# Altium PCB LPEDT_revA1_bikeit_rev_01.PcbLib
Units mil, origin at the board's own origin, x right, y up, seen from the top; angles counter-clockwise.
Board outline 6000 x 4000 mil, 2 copper layers (Top Layer, Bottom Layer); 67 components, 61 nets, 410 pads, 0 vias.
Unrouted connection lines stored in the file: 173.
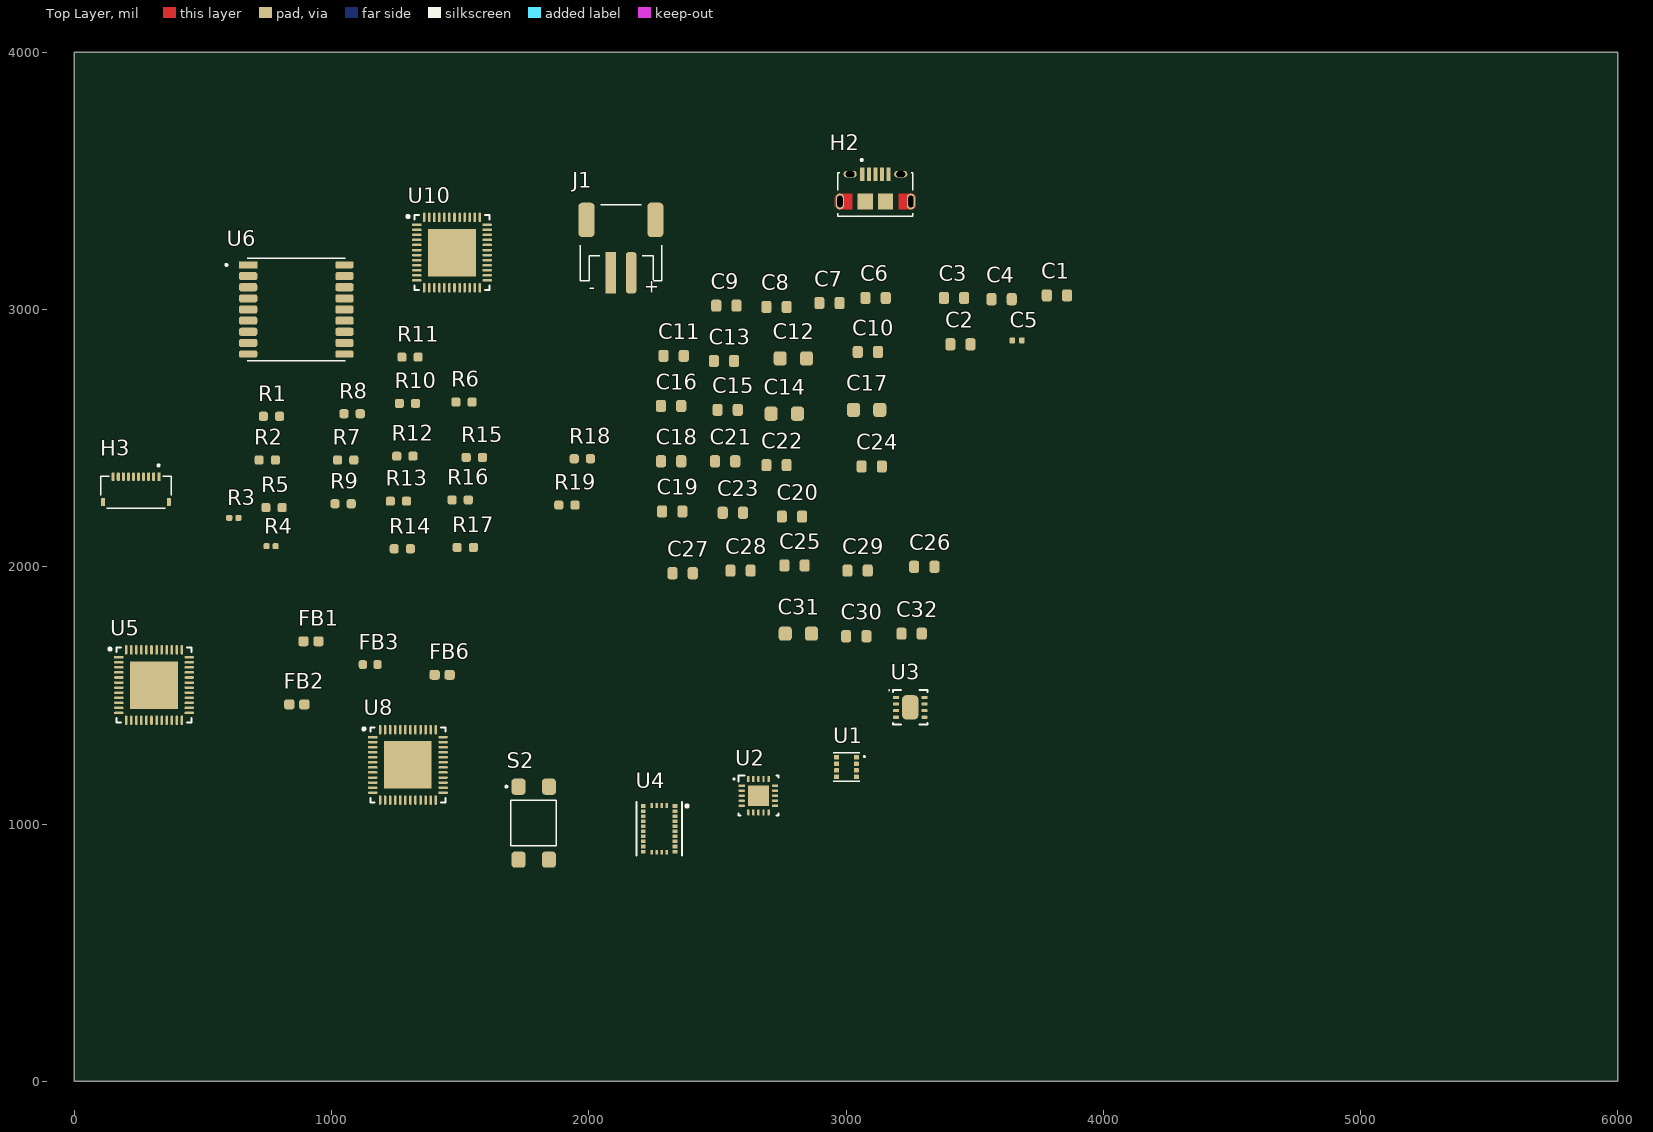
[diagram p0: Top Layer view]
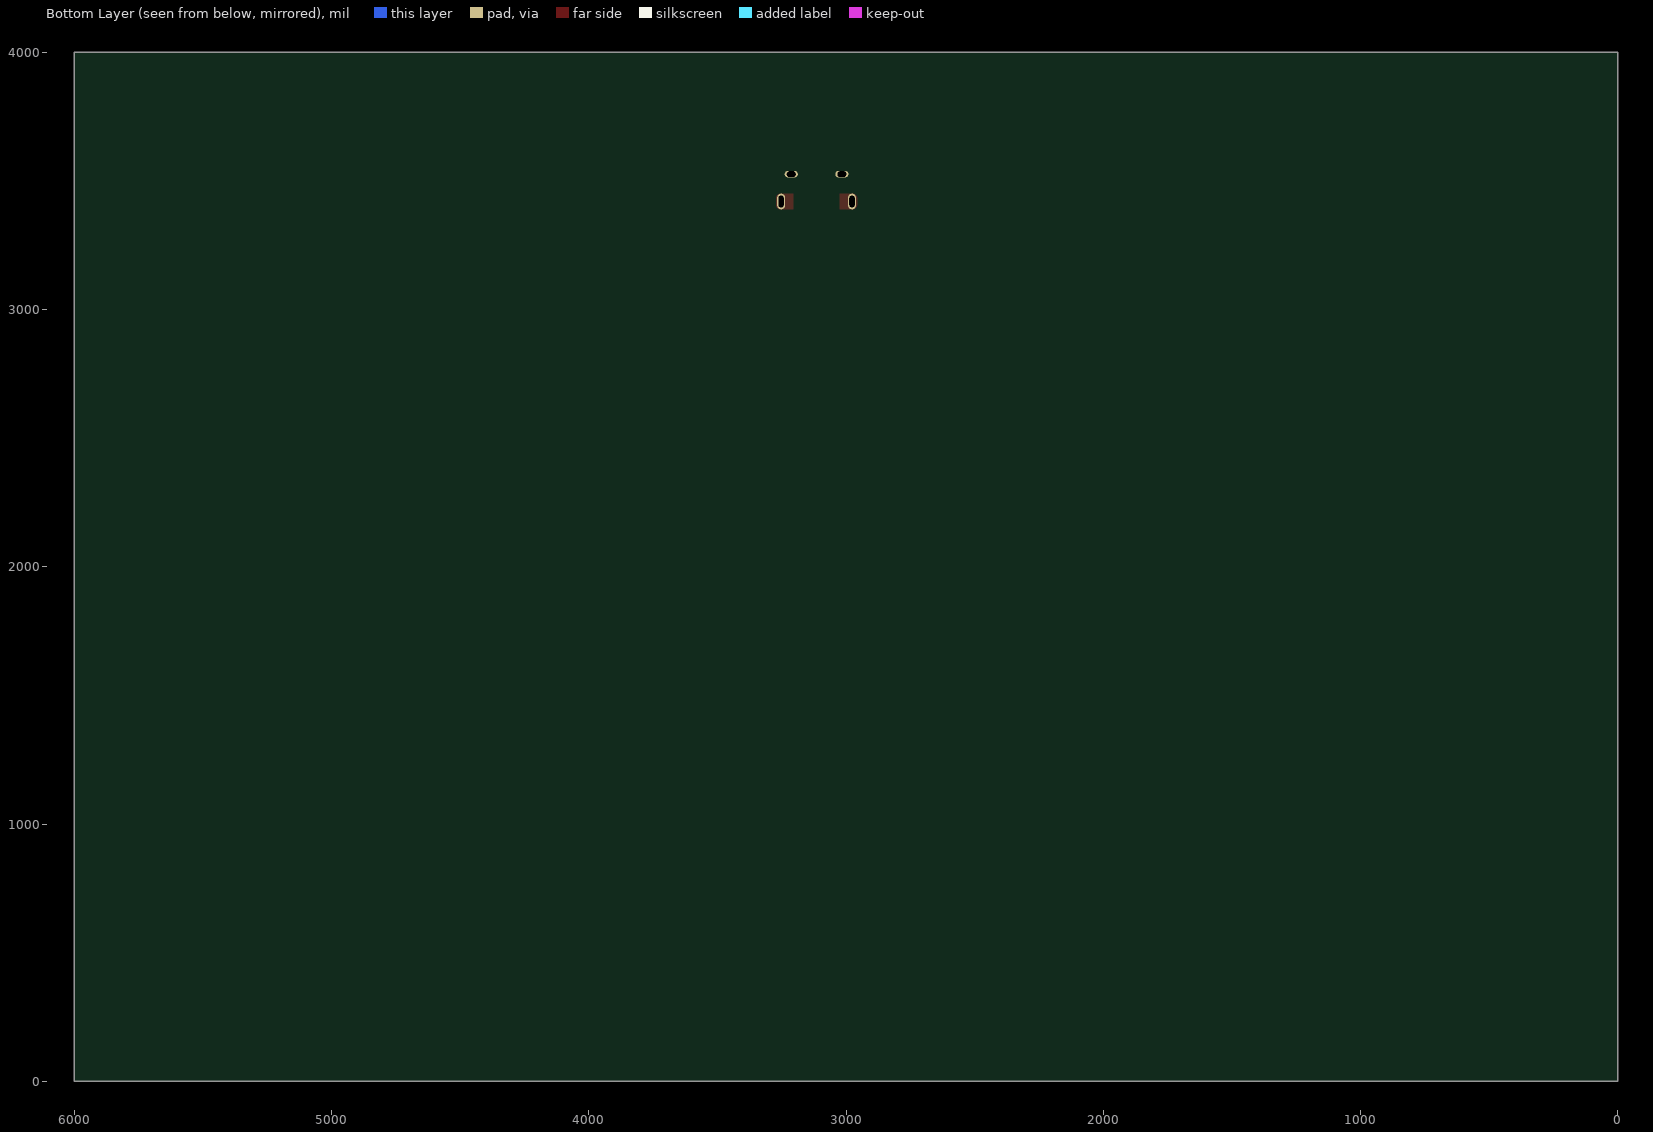
[diagram p1: Bottom Layer view, seen from below]

## Layer stack, top to bottom
Top Solder: solder mask 0.4, Solder Resist, Dk 3.5
Top Layer: signal copper 1.4
Dielectric 1: dielectric 12.6, FR-4, Dk 4.8
Bottom Layer: signal copper 1.4
Bottom Solder: solder mask 0.4, Solder Resist, Dk 3.5

## Board outline
0,0 6000,0 6000,4000 0,4000

## Design rules (kind name [scope] priority, off if disabled: settings)
Clearance [All] p1: gap=10 ignorepadtopadclearanceinfootprint=FALSE except(0: Arc-Hole Track-Hole SMDPad-Hole THPad-Hole Via-Hole Fill-Hole Poly-Hole Region-Hole Text-Hole)
PolygonConnect [All] p1: connectstyle=Relief reliefconductorwidth=10 reliefentries=4 polygonreliefangle="90 Angle" airgapwidth=10
RoutingVias [All] p1: holewidth=28 width=50 viastyle="Through Hole" minholewidth=28 minwidth=50 maxholewidth=28 maxwidth=50
SolderMaskExpansion [All] p1: expansion=4 istentingtop=FALSE
Width [All] p1: maxlimit=10 minlimit=10 preferedwidth=10
30 further rules are at their usual default settings.

## Classes and differential pairs
component class LPEDT_revA1_bikeit_POWER: C2 C3 C4 C27 C28 C29 C30 C31 H1 H2 J1 L4 L5 R8 R9 R10 R11 R12 R13 R14 R15 R16 U2 U3
component class LPEDT_revA1_bikeit_MCU_POWER_RESET: ANT1 C5 C6 C7 C8 C9 C10 C11 C12 C13 C14 C15 C16 C17 C18 C19 C20 FB1 FB2 FB3 L1 L2 L3 R3 R4 R5 R6 S2 U8 U10 X1
component class LPEDT_revA1_bikeit_MCU_IO: ANT2 BATT1 C1 C21 C22 C23 C24 C25 C26 C32 FB6 H3 H4 R1 R2 R7 R17 R18 R19 U1 U4 U5 U6 U9 X2

## Components (designator, comment, footprint, x,y, rotation, side; value= is the part's Value field where it differs from the comment)
C1 "0.1uF 25V" CAP_0603_1.60mm*0.80mm 3820,3055 r0 top
C2 "4.7uF 25V" CAP_0603_1.60mm*0.80mm 3445,2865 r0 top
C3 "0.1uF 25V" CAP_0603_1.60mm*0.80mm 3420,3045 r0 top
C4 "0.1uF 25V" CAP_0603_1.60mm*0.80mm 3605,3040 r0 top
C5 "1.5pF 50V" CAP_0403_1.00mm*0.50mm 3665,2880 r0 top
C6 "100pF 100V" CAP_0603_1.60mm*0.80mm 3115,3045 r0 top
C7 "10pF 50V" CAP_0603_1.60mm*0.80mm 2935.63,3025 r0 top
C8 "0.22uF 25V" CAP_0603_1.60mm*0.80mm 2730,3010 r0 top
C9 "10pF 50V" CAP_0603_1.60mm*0.80mm 2535,3015 r0 top
C10 "0.1UF 25V" CAP_0603_1.60mm*0.80mm 3085,2835 r0 top
C11 "0.1uF 25V" CAP_0603_1.60mm*0.80mm 2330,2820 r0 top
C12 "10uF 25V" CAP_0805_2MM 2795,2810 r0 top
C13 "4.7uF 25V" CAP_0603_1.60mm*0.80mm 2525.63,2800 r0 top
C14 "10uF 25V" CAP_0805_2MM 2760,2595 r0 top
C15 "1uF 50V" CAP_0603_1.60mm*0.80mm 2540,2610 r0 top
C16 "0.1uF 25V" CAP_0603_1.60mm*0.80mm 2320,2625 r0 top
C17 "10uF 25V" CAP_0805_2MM 3080,2610 r0 top
C18 "0.01uF 100V" CAP_0603_1.60mm*0.80mm 2320,2410 r0 top
C19 "1uF 50V" CAP_0603_1.60mm*0.80mm 2324.37,2215 r0 top
C20 "1uF 50V" CAP_0603_1.60mm*0.80mm 2790,2195 r0 top
C21 "1uF 50V" CAP_0603_1.60mm*0.80mm 2530,2410 r0 top
C22 "4.7uF 25V" CAP_0603_1.60mm*0.80mm 2730,2395 r0 top
C23 "0.1uF 25V" CAP_0603_1.60mm*0.80mm 2560,2210 r0 top
C24 "1uF 50V" CAP_0603_1.60mm*0.80mm 3100,2390 r0 top
C25 "1uF 50V" CAP_0603_1.60mm*0.80mm 2800,2005 r0 top
C26 "0.1uF 25V" CAP_0603_1.60mm*0.80mm 3304.37,2000 r0 top
C27 "0.01uF 100V" CAP_0603_1.60mm*0.80mm 2365,1975 r0 top
C28 "4.7uF 25V" CAP_0603_1.60mm*0.80mm 2590,1985 r0 top
C29 "22uF 10V" CAP_0603_1.60mm*0.80mm 3045,1985 r0 top
C30 "0.01uF 100V" CAP_0603_1.60mm*0.80mm 3040,1730 r0 top
C31 "100uF 6.3V" CAP_0805_2MM 2815,1740 r0 top
C32 "1uF 50V" CAP_0603_1.60mm*0.80mm 3255,1740 r0 top
FB1 "BLM18AG601SN1D 100 MHz" Chip2PinSM127P600-8N 920,1710 r0 top
FB2 "BLM18AG601SN1D 100 MHz" Chip2PinSM127P600-8N 865,1465 r0 top
FB3 "74279266 1 KOhm" FB_0603_1.60mm*0.80mm 1150,1620 r0 top
FB6 "BLM18AG601SN1D 100MHz" Chip2PinSM127P600-8N 1430,1580 r0 top
H2 "USB MICRO B RECPT" AMPHENOL_10118194-0001LF 3114.37,3420 r0 top
H3 "CONN FFC FPC 10POS 0.50MM" AYF531035A 328.43,2350 r0 top
J1 "S2B-PH-SM4-TB" S2B-PH-SM4-TB 2125,3290 r0 top
R1 "4.7k 1%" RES_0603_1608X06 766.5,2585 r0 top
R2 "4.7k 1%" RES_0603_1608X06 750,2415 r0 top
R3 "0 Ohm 1/16W" RESC1005X04N 620,2190 r0 top
R4 "0 Ohm 1/16W" RESC1005X04N 765,2080 r0 top
R5 "100 1%" RES_0603_1608X06 776.5,2230 r0 top
R6 "1 Ohm 1% 0.1W" RES_0603_1608X06 1515,2640 r0 top
R7 "100k 1%" RES_0603_1608X06 1055,2415 r0 top
R8 "10k 1%" RES_0603_1608X06 1080,2595 r0 top
R9 "698 0.1W 1%" RES_0603_1608X06 1045,2245 r0 top
R10 "4.75M 1%" RES_0603_1608X06 1295,2635 r0 top
R11 "8.25M 0.1W 1%" RES_0603_1608X06 1305,2815 r0 top
R12 "4.22M 0.1W 1%" RES_0603_1608X06 1285,2430 r0 top
R13 "8.06M 1%" RES_0603_1608X06 1260,2255 r0 top
R14 "715k 1%" RES_0603_1608X06 1275,2070 r0 top
R15 "7.5M 0.1W 1%" RES_0603_1608X06 1555,2425 r0 top
R16 "5.62M 0.1W 1%" RES_0603_1608X06 1500,2260 r0 top
R17 "10k 1%" RES_0603_1608X06 1520,2075 r0 top
R18 "10k 1%" RES_0603_1608X06 1975,2420 r0 top
R19 "10k 1%" RES_0603_1608X06 1915,2240 r0 top
S2 "SWITCH SPST-NO 50MA 12V" SW_TL3305AF260QG 1785.94,1003.27 r0 top
U1 "BME280" PSON65P250X250X100-8N 3001.81,1221.61 r0 top
U2 "BQ25570RGRR PMIC" RGR0020A_NV 2659.67,1110.07 r0 top value=Value
U3 "TPS2115ADRBT Power Mux" SON127P600-8N 3249.88,1453.39 r0 top
U4 "BNO055" FP-BNO055-MFG 2273.48,981.42 r0 top
U5 "EFR32BG13P732F512GM48-C" QFN50P700X700X90_HS-49N 310,1540 r0 top
U6 "MAX-M8Q-0" XCVR_MAX-M8C-0-10 862.99,3000.08 r0 top
U8 "EFR32BG13P732F512GM48-C" QFN50P700X700X90_HS-49N 1296.81,1229.84 r0 top
U10 "EFR32BG13P732F512GM48-C" QFN50P700X700X90_HS-49N 1468.19,3221.42 r0 top

## Footprints (in the part's own frame and the unit in brackets; to place one, negate y for a bottom-side part, rotate by r counter-clockwise, add the part's x,y. Pads: shape width x height; smd on the part's side, far side on the other; paste and mask are expansions set on the pad)
AMPHENOL_10118194-0001LF [mm]
  rect 0.4x1.35 smd: 1(-1.3,2.7) 2(-0.65,2.7) 3(0,2.7) 4(0.65,2.7) 5(1.3,2.7)
  oval 1.3x0.65 hole 0.55 slot 0.85 at 0 deg: S1(-2.5,2.7) S2(2.5,2.7)
  oval 0.775x1.55 hole 0.5 slot 1.15 at 90 deg: S3(-3.5,0) S6(3.5,0)
  rect 1.5x1.55 smd: S4(-1,0) S5(1,0)
  Top Layer region: 193 vertices and 0 holes, not listed, extent 2.3,-0.78 4,0.775
  Top Layer region: 193 vertices and 0 holes, not listed, extent -4,-0.775 -2.3,0.78
  silkscreen extent -3.7,-1.45 3.7,4.2, body extent -4.05,-2.69 4,2.89, height 2.75
AYF531035A [mm]
  rect 0.3x0.8 smd mask+0.082: 1(0,0)
  rrect50% 0.3x0.8 smd mask+0.082: 2(-0.5,0) 3(-1,0) 4(-1.5,0) 5(-2,0) 6(-2.5,0) 7(-3,0) 8(-3.5,0) 9(-4,0) 10(-4.5,0)
  rrect50% 0.4x0.8 smd mask+0.082: S1(1,-2.5) S2(-5.5,-2.5)
  silkscreen extent -5.75,-3.1 1.25,1.22, body extent -5.75,-2.97 1.25,0.73, height 1
CAP_0403_1.00mm*0.50mm [mm] "Chip Capacitor, 2-Leads, Body 1.00x0.50mm, IPC Medium Density"
  rrect50% 0.55x0.6 smd: 1(-0.475,0) 2(0.475,0)
  body extent -0.53,-0.28 0.53,0.28, height 0.55
CAP_0603_1.60mm*0.80mm [mm] "Chip Capacitor, 2-Leads, Body 1.60x0.80mm, IPC Medium Density"
  rrect50% 1x1.2 smd: 1(-1,0) 2(1,0)
  body extent -0.87,-0.48 0.88,0.47, height 0.95
CAP_0805_2MM [mm] "Chip Capacitor, 2-Leads, Body 2.00x1.25mm, IPC Medium Density"
  rrect50% 1.3x1.4 smd: 1(-1.3,0) 2(1.3,0)
  body extent -1.07,-0.7 1.08,0.7, height 1.4
Chip2PinSM127P600-8N [mm]
  rrect50% 1.02x0.98 smd: 1(-0.74,0) 2(0.74,0)
  body extent -0.87,-0.48 0.88,0.47, height 0.95
FB_0603_1.60mm*0.80mm [mm] "Ferrite Bead, 2-Leads, Body 1.60x0.80mm, IPC Medium Density"
  rrect50% 0.8x0.85 smd: 1(-0.725,0) 2(0.725,0)
  body extent -0.8,-0.4 0.8,0.4, height 0.8
FP-BNO055-MFG [mm]
  rect 0.475x0.35 smd paste+0 mask-1000: 1(1.562,2.25) 6(-1.562,2.25) 7(-1.562,1.75) 8(-1.562,1.25) 9(-1.562,0.75) 10(-1.562,0.25) 11(-1.562,-0.25) 12(-1.562,-0.75) 13(-1.562,-1.25) 14(-1.562,-1.75) 15(-1.562,-2.25) 20(1.562,-2.25) 21(1.562,-1.75) 22(1.562,-1.25) 23(1.562,-0.75) 24(1.562,-0.25) 25(1.562,0.25) 26(1.562,0.75) 27(1.562,1.25) 28(1.562,1.75)
  rect 0.25x0.475 smd paste+0 mask-1000: 2(0.75,2.312) 3(0.25,2.312) 4(-0.25,2.312) 5(-0.75,2.312) 16(-0.75,-2.312) 17(-0.25,-2.312) 18(0.25,-2.312) 19(0.75,-2.312)
  silkscreen extent -2.25,-2.65 2.88,2.65, body extent -2.45,-3.15 2.45,3.15, height 0.25
PSON65P250X250X100-8N [mm]
  rect 0.49x0.45 smd paste+0 mask+0.085: 1(0.97,0.975)
  rrect25% 0.49x0.45 smd paste+0 mask+0.085: 2(0.97,0.325) 3(0.97,-0.325) 4(0.97,-0.975) 5(-0.97,-0.975) 6(-0.97,-0.325) 7(-0.97,0.325) 8(-0.97,0.975)
  silkscreen extent -1.3,-1.39 1.83,1.39, body extent -1.25,-1.25 1.25,1.25, height 1
QFN50P700X700X90_HS-49N [mm] "QFN, 48-Leads, Body 7.00x7.00mm, Pitch 0.50mm, Thermal Pad 4.70x4.70mm, IPC Medium Density"
  rect 4.7x4.7 smd: 0(0,0)
  rect 0.95x0.25 smd: 1(-3.475,2.75)
  oval 0.95x0.25 smd: 2(-3.475,2.25) 3(-3.475,1.75) 4(-3.475,1.25) 5(-3.475,0.75) 6(-3.475,0.25) 7(-3.475,-0.25) 8(-3.475,-0.75) 9(-3.475,-1.25) 10(-3.475,-1.75) 11(-3.475,-2.25) 12(-3.475,-2.75) 25(3.475,-2.75) 26(3.475,-2.25) 27(3.475,-1.75) 28(3.475,-1.25) 29(3.475,-0.75) 30(3.475,-0.25) 31(3.475,0.25) 32(3.475,0.75) 33(3.475,1.25) 34(3.475,1.75) 35(3.475,2.25) 36(3.475,2.75)
  oval 0.25x0.95 smd: 13(-2.75,-3.475) 14(-2.25,-3.475) 15(-1.75,-3.475) 16(-1.25,-3.475) 17(-0.75,-3.475) 18(-0.25,-3.475) 19(0.25,-3.475) 20(0.75,-3.475) 21(1.25,-3.475) 22(1.75,-3.475) 23(2.25,-3.475) 24(2.75,-3.475) 37(2.75,3.475) 38(2.25,3.475) 39(1.75,3.475) 40(1.25,3.475) 41(0.75,3.475) 42(0.25,3.475) 43(-0.25,3.475) 44(-0.75,3.475) 45(-1.25,3.475) 46(-1.75,3.475) 47(-2.25,3.475) 48(-2.75,3.475)
  silkscreen extent -4.47,-3.7 3.7,3.7, body extent -3.6,-3.6 3.6,3.6, height 0.9
RES_0603_1608X06 [mm] "Chip Resistor, 2-Leads, Body 1.60x0.80mm, IPC Medium Density"
  rrect50% 0.9x0.9 smd: 1(-0.8,0) 2(0.8,0)
  body extent -0.78,-0.43 0.77,0.42, height 0.45
RESC1005X04N [mm] "Chip Resistor, 2-Leads, Body 1.00x0.50mm, IPC Medium Density"
  rrect50% 0.6x0.6 smd: 1(-0.45,0) 2(0.45,0)
  body extent -0.55,-0.3 0.55,0.3, height 0.4
RGR0020A_NV [mm]
  rect 0.6x0.24 smd paste-0.102 mask+0.051: 1(-1.65,1)
  rrect50% 0.6x0.24 smd paste-0.102 mask+0.051: 2(-1.65,0.5) 3(-1.65,0) 4(-1.65,-0.5) 5(-1.65,-1) 11(1.65,-1) 12(1.65,-0.5) 13(1.65,0) 14(1.65,0.5) 15(1.65,1)
  rrect50% 0.24x0.6 smd paste-0.102 mask+0.051: 6(-1,-1.65) 7(-0.5,-1.65) 8(0,-1.65) 9(0.5,-1.65) 10(1,-1.65) 16(1,1.65) 17(0.5,1.65) 18(0,1.65) 19(-0.5,1.65) 20(-1,1.65)
  rect 2.05x2.05 smd paste-1.025 mask+0.051: 21(0,0)
  rrect50% 0.6x0.24 on Top Paste paste-0.102 mask+0.051: ""(-1.65,-1.001) ""(-1.65,-0.501) ""(-1.65,-0.001) ""(-1.65,0.499) ""(1.65,-1.001) ""(1.65,-0.501) ""(1.65,-0.001) ""(1.65,0.499) ""(1.65,0.999)
  rect 0.6x0.24 on Top Paste paste-0.102 mask+0.051: ""(-1.65,0.999)
  rrect50% 0.24x0.6 on Top Paste paste-0.102 mask+0.051: ""(-1,-1.651) ""(-1,1.649) ""(-0.5,-1.651) ""(-0.5,1.649) ""(0,-1.651) ""(0,1.649) ""(0.5,-1.651) ""(0.5,1.649) ""(1,-1.651) ""(1,1.649)
  silkscreen extent -2.46,-1.97 1.97,1.97, body extent -1.75,-1.75 1.75,1.75, height 1
S2B-PH-SM4-TB [mil]
  rect 40x160 smd: 1(-39.44,-147.2)
  rrect50% 40x160 smd: 2(39.93,-147.2)
  rrect50% 63x134 smd: NC1(-133.93,58.46) NC2(133.93,58.46)
  silkscreen extent -158,-179 158,117, body extent -156,-216 155,123, height 220
SON127P600-8N [mm]
  rect 0.6x0.3 smd: 1(-1.4,0.975)
  rrect50% 0.6x0.3 smd: 2(-1.4,0.325) 3(-1.4,-0.325) 4(-1.4,-0.975) 5(1.4,-0.975) 6(1.4,-0.325) 7(1.4,0.325) 8(1.4,0.975)
  rrect50% 1.6x2.4 smd: 9(0,0)
  silkscreen extent -2.15,-1.7 1.7,1.75, body extent -1.6,-1.55 1.6,1.55, height 1
SW_TL3305AF260QG [mm]
  rrect50% 1.4x1.6 smd: 1(-1.5,3.6) 2(-1.5,-3.6) 3(1.5,3.6) 4(1.5,-3.6)
  silkscreen extent -2.8,-2.25 2.25,3.7, body extent -2.25,-3.75 2.25,3.75, height 3.7
XCVR_MAX-M8C-0-10 [mm]
  rect 1.8x0.7 smd paste-2 mask+0: 1(-4.75,4.4)
  rrect50% 1.8x0.8 smd paste-2 mask+0: 2(-4.75,3.3) 3(-4.75,2.2) 4(-4.75,1.1) 5(-4.75,0) 6(-4.75,-1.1) 7(-4.75,-2.2) 8(-4.75,-3.3) 11(4.75,-3.3) 12(4.75,-2.2) 13(4.75,-1.1) 14(4.75,0) 15(4.75,1.1) 16(4.75,2.2) 17(4.75,3.3)
  rrect50% 1.8x0.7 smd paste-2 mask+0: 9(-4.75,-4.4) 10(4.75,-4.4) 18(4.75,4.4)
  rrect50% 1.8x0.7 on Top Paste paste-2 mask+0: ""(-4.749,-4.399) ""(4.751,-4.399) ""(4.751,4.401)
  rrect50% 1.8x0.8 on Top Paste paste-2 mask+0: ""(-4.749,-3.299) ""(-4.749,-2.199) ""(-4.749,-1.099) ""(-4.749,0.001) ""(-4.749,1.101) ""(-4.749,2.201) ""(-4.749,3.301) ""(4.751,-3.299) ""(4.751,-2.199) ""(4.751,-1.099) ""(4.751,0.001) ""(4.751,1.101) ""(4.751,2.201) ""(4.751,3.301)
  rect 1.8x0.7 on Top Paste paste-2 mask+0: ""(-4.749,4.401)
  silkscreen extent -7,-5.06 4.85,5.06, body extent -4.85,-5.05 4.85,5.05, height 2.7

## Part data
C1 C3 C4 C10 C11 C16 C23 C26: library part GCJ188R71E104KA12D, "CAP CER 0.1UF 25V X7R 0603", Capacitance=100nF, Case Code (Imperial)=0603, Case Code (Metric)=1608, Manufacturer=Murata, Max Operating Temperature=125°C, Min Operating Temperature=-55°C, Ratings=AEC-Q200, Supplier Part Number 1=490-16477-1-ND, Tolerance=10%, Voltage Rating=25V
C2 C13 C22 C28: library part GRM188R61E475KE11D, "Cap Ceramic 0603 4.7 uF 25 V ±10 % Tolerance X5R SMT Multilayer Ceramic Capacitor", Capacitance=4.7uF, Case Code (Imperial)=0603, Case Code (Metric)=1608, Dielectric=X5R, Manufacturer=Murata, Max Operating Temperature=85°C, Min Operating Temperature=-55°C, Package Quantity=4000, Supplier Part Number 1=490-7203-1-ND, Tolerance=10%, Voltage=25V
C5: library part 500R07S1R5BV4T, "1.5pF ±0.1pF 50V Ceramic Capacitor C0G, NP0 0402 (1005 Metric)", Manufacturer="Johanson Technology Inc.", Supplier Part Number 1=712-1270-1-ND
C6: library part GRM1885C2A101FA01D, "Multilayer Ceramic Capacitors MLCC - SMD/SMT 100pF 100Volts C0G 0.01", Capacitance=100pF, Case Code (Imperial)=0603, Case Code (Metric)=1608, Dielectric=C0G, Manufacturer=Murata, Max Operating Temperature=125°C, Min Operating Temperature=-55°C, Package Quantity=4000, Supplier Part Number 1=490-14623-1-ND, Tolerance=1%, Voltage Rating=100V
C7 C9: library part GRM1885C1H100FA01D, "Cap Ceramic 10pF 50V C0G 1% SMD 0603 125C T/R", Capacitance=10pF, Case Code (Imperial)=0603, Case Code (Metric)=1608, Dielectric=C0G, Manufacturer=Murata, Max Operating Temperature=125°C, Min Operating Temperature=-55°C, Package Quantity=4000, Supplier Part Number 1=490-9713-1-ND, Temperature Coefficient=30ppm/°C, Tolerance=1%, Voltage=50V
C8: library part GRM188R71E224KA88D, "Capacitor 220 nF 25 VDC PU=4000 ST, GRM188R71E224KA88D, Murata", Capacitance=220nF, Case Code (Imperial)=0603, Case Code (Metric)=1608, Dielectric=X7R, Manufacturer=Murata, Max Operating Temperature=125°C, Min Operating Temperature=-55°C, Package Quantity=1, Supplier Part Number 1=490-3290-1-ND, Tolerance=10%, Voltage=50V, Voltage Rating=25V
C12 C14 C17: library part GRM21BR61E106KA73K, "CAP CER 10UF 25V X5R 0805", Capacitance=10uF, Case/Package=0805, Dielectric=X5R, Manufacturer=Murata, Max Operating Temperature=85°C, Min Operating Temperature=-55°C, Package Quantity=10000, Supplier Part Number 1=490-16824-1-ND, Tolerance=10%, Voltage Rating=25V
C15 C19 C20 C21 C24 C25 C32: library part GRT188R61H105KE13D, "CAP, MLCC, AEC-Q200, X5R, 1uF, 50V, 0603", Capacitance=1uF, Case Code (Imperial)=0603, Case Code (Metric)=1608, Dielectric=X5R, Manufacturer=Murata, Max Operating Temperature=85°C, Min Operating Temperature=-55°C, Ratings=AEC-Q200, Supplier Part Number 1=490-12330-1-ND, Tolerance=10%, Voltage Rating=50V
C18 C27 C30: library part GCM188R72A103KA37D, "Multilayer Ceramic Capacitor, AEC-Q200 GCM Series, 0.01 F, 10%, X7R, 100 V RoHS Compliant: Yes", Capacitance=10nF, Case Code (Imperial)=0603, Case Code (Metric)=1608, Dielectric=X7R, Manufacturer=Murata, Max Operating Temperature=125°C, Min Operating Temperature=-55°C, Package Quantity=1, Ratings=AEC-Q200, Supplier Part Number 1=490-4781-1-ND, Tolerance=10%, Voltage=100V
C29: library part GRM188R61A226ME15D, "Cap Ceramic 0603 22 uF 10 V ±20% Tolerance X5R Multilayer Ceramic Chip Capacitor", Capacitance=22uF, Case Code (Imperial)=0603, Case Code (Metric)=1608, Dielectric=X5R, Manufacturer=Murata, Max Operating Temperature=85°C, Min Operating Temperature=-55°C, Package Quantity=4000, Supplier Part Number 1=490-10476-1-ND, Tolerance=20%, Voltage Rating=10V
C31: library part GRM21BR60J107ME15L, "Multilayer Ceramic Capacitor, 100 µF, 6.3 V, 0805 [2012 Metric], ± 20%, X5R, GRM Series", Capacitance=100uF, Case Code (Imperial)=0805, Case Code (Metric)=2012, Dielectric=X5R, Manufacturer=Murata, Max Operating Temperature=85°C, Min Operating Temperature=-55°C, Supplier Part Number 1=490-13981-1-ND, Tolerance=20%, Voltage Rating=6.3V
FB1 FB2 FB6: library part BLM18AG601SN1D, "Ferrite Bead, 0603 / 1608, 600 ohm, 500 mA, Série BLM18A, 0.38 ohm, ± 25%", Case Code (Imperial)=0603, Case Code (Metric)=1608, Current Rating=500mA, DC Resistance (DCR)=380mR, Frequency=100MHz, Manufacturer=Murata, Max Operating Temperature=125°C, Min Operating Temperature=-55°C, Package Quantity=1, Supplier Part Number 1=490-1014-1-ND, Tolerance=25%
FB3: library part 74279266, "Ferrite Bead, 0603 [1608 Metric], 1 kohm, 200 mA, WE-CBF Series, 0.6 ohm, ± 25%", Case Code (Imperial)=0603, Case Code (Metric)=1608, Case/Package=SMD/SMT, Current Rating=200mA, DC Resistance (DCR)=600mR, Inductance=1.8nH, Manufacturer="Wurth Electronics", Max Operating Temperature=125°C, Min Operating Temperature=-55°C, Supplier Part Number 1=732-4484-1-ND, Test Frequency=100MHz, Tolerance=25%
H2: library part 10118194-0001LF, "USB - micro B USB 2.0 Receptacle Connector 5 Position Surface Mount, Right Angle; Through Hole", Color=Black, Current Rating=1.8A, Flammability Rating="UL94 V-0", Insulation Resistance=1GR, Manufacturer="Amphenol FCI", Max Operating Temperature=85°C, Max Voltage Rating (AC)=100V, Min Operating Temperature=-55°C, Package Quantity=9600, Supplier Part Number 1=609-4618-6-ND
H3: library part AYF531035A, "10 Position 0.5 mm Solder Right Angle FFC / FPC SMD Socket", Current Rating=500mA, Flammability Rating="UL94 V-0", Manufacturer=Panasonic, Max Operating Temperature=85°C, Min Operating Temperature=-55°C, Package Quantity=500, Supplier Part Number 1=255-5667-ND, Voltage Rating=50V
J1: library part S2B-PH-SM4-TB(LF)(SN), "JST PH Series, 2 Position, Side Entry, 2.00mm, Solder, Surface Mount, Natural", Manufacturer=JST, Supplier Part Number 1=38K8067
R1 R2: library part RC0603FR-074K7L, "RES SMD 4.7k  1% 0603", Case Code (Imperial)=0603, Case Code (Metric)=1608, Manufacturer=Yageo, Max Operating Temperature=155°C, Max Power Dissipation=100mW, Min Operating Temperature=-55°C, Resistance=4.7kR, Resistance Tolerance=1%, Resistor Type="Thick Film", Supplier Part Number 1=311-4.70KHRCT-ND, Temperature Coefficient=100ppm/°C, Voltage Rating=50V
R3 R4: library part RMCF0402ZT0R00, "RES SMD 0 OHM JUMPER 1/16W 0402", Case Code (Imperial)=0402, Case Code (Metric)=1005, Current Rating=1A, Manufacturer="Stackpole Electronics", Max Operating Temperature=155°C, Max Power Dissipation=63mW, Min Operating Temperature=-55°C, Resistance=0R, Resistor Type="Thick Film", Working Voltage=50V
R5: library part RMCF0603FT100R, "RES SMD 100 1%", Case Code (Imperial)=0603, Case Code (Metric)=1608, Manufacturer="Stackpole Electronics", Max Operating Temperature=155°C, Max Power Dissipation=100mW, Min Operating Temperature=-55°C, Resistance=100R, Resistor Type="Thick Film", Supplier Part Number 1=RMCF0603FT100RCT-ND, Temperature Coefficient=100ppm/°C, Tolerance=1%
R6: library part ERJ-3RQF1R0V, "RES SMD 1 OHM 1% 1/10W 0603", Case Code (Imperial)=0603, Case Code (Metric)=1608, Manufacturer=Panasonic, Max Operating Temperature=125°C, Max Power Dissipation=100mW, Min Operating Temperature=-55°C, Package Quantity=5000, Resistance=1R, Resistance Tolerance=1%, Resistor Type="Thick Film", Supplier Part Number 1=P1.0AJCT-ND, Temperature Coefficient=200ppm/°C
R7: library part RC0603FR-07100KL, "RES SMD 100k  1% 1/10W 0603", Case Code (Imperial)=0603, Case Code (Metric)=1608, Manufacturer=Yageo, Max Operating Temperature=155°C, Max Power Dissipation=100mW, Min Operating Temperature=-55°C, Resistance=100kR, Resistance Tolerance=1%, Resistor Type="Thick Film", Supplier Part Number 1=311-100KHRCT-ND, Temperature Coefficient=100ppm/°C, Voltage Rating=50V, Working Voltage=75V
R8 R17 R18 R19: library part RC0603FR-0710KL, "RES SMD 10k 1% 1/10W 0603", Case Code (Imperial)=0603, Case Code (Metric)=1608, Manufacturer=Yageo, Max Operating Temperature=155°C, Max Power Dissipation=100mW, Min Operating Temperature=-55°C, Resistance=10kR, Resistance Tolerance=1%, Resistor Type="Thick Film", Supplier Part Number 1=311-10.0KHRCT-ND, Temperature Coefficient=100ppm/°C, Voltage Rating=75V, Voltage Rating (DC)=50V
R9: library part ERJ-3EKF6980V, "RES SMD 698 1% 1/10W 0603", Case Code (Imperial)=0603, Case Code (Metric)=1608, Manufacturer=Panasonic, Max Operating Temperature=155°C, Max Power Dissipation=100mW, Min Operating Temperature=-55°C, Package Quantity=1, Resistance=698R, Resistance Tolerance=1%, Resistor Type="Thick Film", Supplier Part Number 1=P698HCT-ND, Temperature Coefficient=100ppm/°C, Voltage Rating=75V, Voltage Rating (DC)=50V
R10: library part RC0603FR-074M75L, "RES SMD 4.75M 1% 1/10W 0603", Case Code (Imperial)=0603, Case Code (Metric)=1608, Manufacturer=Yageo, Max Operating Temperature=155°C, Max Power Dissipation=100mW, Min Operating Temperature=-55°C, Package Quantity=1, Resistance=4.75MR, Resistor Type="Thick Film", Temperature Coefficient=100ppm/°C, Tolerance=1%, Voltage Rating=75V, Voltage Rating (DC)=50V
R11: library part CRCW06038M25FKEA, "RES SMD 8.25M  1% 1/10W 0603", Case Code (Imperial)=0603, Case Code (Metric)=1608, Manufacturer=Vishay, Max Operating Temperature=155°C, Max Power Dissipation=100mW, Min Operating Temperature=-55°C, Package Quantity=10, Resistance=8.25MR, Resistance Tolerance=1%, Resistor Type="Thick Film", Supplier Part Number 1=541-8.25MHCT-ND, Temperature Coefficient=100ppm/°C, Voltage Rating=75V
R12: library part CRCW06034M22FKEA, "RES SMD 4.22M 1% 1/10W 0603", Case Code (Imperial)=0603, Case Code (Metric)=1608, Manufacturer=Vishay, Max Operating Temperature=155°C, Max Power Dissipation=100mW, Min Operating Temperature=-55°C, Package Quantity=10, Resistance=4.22MR, Resistance Tolerance=1%, Resistor Type="Thick Film", Supplier Part Number 1=541-4.22MHCT-ND, Temperature Coefficient=100ppm/°C, Voltage Rating=75V
R13: library part RMCF0603FT8M06, "RES SMD 8.06M OHM 1% 1/10W 0603", Case/Package=0603, Manufacturer="Stackpole Electronics", Max Operating Temperature=155°C, Min Operating Temperature=-55°C, Resistance=8.06MR, Resistor Type="Thick Film", Supplier Part Number 1=RMCF0603FT8M06CT-ND, Temperature Coefficient=200ppm/°C, Tolerance=1%
R14: library part RC0603FR-07715KL, "RES SMD 715k 1% 1/10W 0603", Case Code (Imperial)=0603, Manufacturer=Yageo, Max Operating Temperature=155°C, Max Power Dissipation=100mW, Min Operating Temperature=-55°C, Package Quantity=1, Resistance=715kR, Resistor Type="Thick Film", Supplier Part Number 1=311-715KHRCT-ND, Temperature Coefficient=100ppm/°C, Tolerance=1%, Voltage Rating (DC)=50V
R15: library part CRCW06037M50FKEA, "RES SMD 7.5M 1% 1/10W 0603", Case Code (Imperial)=0603, Case Code (Metric)=1608, Manufacturer=Vishay, Max Operating Temperature=155°C, Max Power Dissipation=100mW, Min Operating Temperature=-55°C, Package Quantity=10, Resistance=7.5MR, Resistance Tolerance=1%, Resistor Type="Thick Film", Supplier Part Number 1=541-7.50MHCT-ND, Temperature Coefficient=100ppm/°C, Voltage Rating=75V
R16: library part CRCW06035M62FKEA, "RES SMD 5.62M 1% 1/10W 0603", Case Code (Imperial)=0603, Case Code (Metric)=1608, Manufacturer=Vishay, Max Operating Temperature=155°C, Max Power Dissipation=100mW, Min Operating Temperature=-55°C, Package Quantity=10, Resistance=5.62MR, Resistance Tolerance=1%, Resistor Type="Thick Film", Supplier Part Number 1=541-5.62MHCT-ND, Temperature Coefficient=100ppm/°C, Voltage Rating=75V
S2: library part TL3305AF260QG, "SWITCH TACTILE SPST-NO 50MA 12V", Manufacturer=E-Switch, Max Operating Temperature=70°C, Min Operating Temperature=-20°C, Operating Force=260gf, Supplier Part Number 1=EG5353CT-ND
U1: "Humidity Temperature Sensor 0 ~ 100% RH I²C, SPI ±3% 1s Surface Mount", Package="LGA-8 Bosch", Supplier Part Number 1=828-1063-1-ND
U2: library part BQ25570RGRR, "Battery Management Low Pwr Harvester Pwr Mgmt IC", Alternate_PartNumber=BQ25570RGRT, Case/Package=VQFN, Manufacturer="Texas Instruments", Max Operating Temperature=125°C, Min Operating Temperature=-40°C, Operating Supply Current=488nA, Operating Supply Voltage=4V, Output Current=100mA, Package Quantity=3000, Supplier Part Number 1=296-39934-1-ND, Switching Frequency=1MHz
U3: library part TPS2115ADRBT, "OR Controller Source Selector Switch N-Channel 2:1 8-SON (3x3)", Case/Package=SON, Current - Output 2=1.25A, Manufacturer="Texas Instruments", Max Input Voltage=5.5V, Max Operating Temperature=85°C, Max Power Dissipation=2.5W, Max Supply Current=90uA, Min Input Voltage=2.8V, Min Operating Temperature=-40°C, Nominal Supply Current=55uA, On-State Resistance=110mR, Package Quantity=250, Supplier Part Number 1=296-39358-1-ND
U4: "IMU ACCEL/GYRO/MAG I2C 28LGA / CMP-2000-05075-4", Case/Package=LGA, Max Operating Temperature=85°C, Min Operating Temperature=-40°C
U5 U8 U10: "BLUE GECKO QFN48 2.4 GHZ 512KB 6", Manufacturer="Silicon Labs", Supplier Part Number 1=336-4109-ND
U6: "MAX-M8 RF Receiver BeiDou, Galileo, GLONASS, GNSS, GPS 1.575GHz -167dBm", Package="SMD-18 u-blox", Supplier Part Number 1=672-MAX-M8Q-0TR-ND

## Nets (pads, with @x,y where several pads share a name; then routed paths per layer and width w, separated by ;. In a path a pad name is that pad's centre, name@x,y a point inside that pad or via, vN(x,y) a via of type N, cw(c..) or ccw(c..) an arc to the next point about the centre after c; other vN are vias at no path point)
+3V3: C1.1 C10.1 C11.1 C12.1 C21.1 C24.1 C26.1 C29.1 FB6.1 H3.7 R1.2 R2.1 R4.1 R17.1 R18.1 R19.2 U1.2 U1.6 U1.8 U2.14 U4.3 U4.28
+3V3_GPS: C22.1 R7.2 U6.7 U6.8
+3V3_MCU: C14.1 C15.1 C20.1 FB3.1 R4.2 U8.39 U8.42
+3V3_VDCDC_OUT: C13.1 C16.1 FB1.1 R3.2 U8.40
+3V7_BATT: C31.1 J1.2 U2.18
+3V_GPS: U6.6
+5V_IN: C4.1 H2.1 U3.6
+V_PMIC_IN: C2.1 R8.2 U2.2 U3.7
+V_SOLAR_IN: C3.1 U3.8
AVDD: C17.1 C18.1 R6.2 U8.34
DISP: C23.1 H3.5 U5.20
DISP_VDDA: C25.1 FB6.2 H3.6
EXTCOMIN: H3.4 U5.46
EXTINT_GPS: U5.33 U6.5
EXTINT_IMU: U4.14 U5.22
EXTMODE: H3.8 U5.19
GND: C1.2 C2.2 C3.2 C4.2 C5.2 C6.2 C7.2 C8.2 C9.2 C10.2 C11.2 C12.2 C13.2 C14.2 C15.2 C16.2 C17.2 C18.2 C19.2 C20.2 C21.2 C22.2 C23.2 C24.2 C25.2 C26.2 C27.2 C28.2 C29.2 C30.2 C31.2 C32.2 H2.5 H2.S1 H2.S2 H2.S3 H2.S4 H2.S5 H2.S6 H3.9 H3.10 H3.S1 H3.S2 J1.1 R9.1 R11.2 R14.2 R16.2 S2.3 S2.4 U1.1 U1.5 U1.7 U2.1 U2.5 U2.15 U2.21 U3.3 U3.5 U4.2 U4.5 U4.6 U4.25 U6.1 U6.10 U6.12 U8.0 U8.37 U10.14 U10.15 U10.16
GPS_ON: U5.31
HFXTAL_N: U10.10
HFXTAL_P: U10.11
LBUCK: U2.16
LFXTAL_N: U5.35
LFXTAL_P: U5.36
n_BOOT_LOAD_PIN: R19.1 U4.4
NetANT1_1: 
NetANT2_1: U6.11
NetC5_1: C5.1
NetC19_1: C19.1 U8.41
NetC32_1: C32.1 U4.9 U4.17 U4.18
NetFB3_2: FB3.2 R6.1
NetL1_1: U10.17
NetL3_1: U8.38
NetL4_2: U2.20
NetR5_1: R5.1 S2.1 S2.2
NetR7_1: R7.1
NetR9_2: R9.2 U3.4
OK_HYST: R12.2 R13.1 U2.10
OK_PROG: R13.2 R14.1 U2.11
PAVDD: C8.1 C9.1 FB2.1 FB2.2 R3.1 U10.18
PMUX_STAT: R8.1 U3.1
RESET_GPS: U5.32 U6.9
RESET_IMU: U4.11 U5.21
RESETn: R5.2 U8.12
RFVDD: C6.1 C7.1 FB1.2 U10.9
SCL_BME: R2.2 U1.4 U5.28
SCL_BNO: R18.2 U4.19 U5.48
SDA_BME: R1.1 U1.3 U5.27
SDA_BNO: R17.2 U4.20 U5.47
SPI_CS: H3.3 U5.44
SPI_SCK: H3.1 U5.43
SPI_SDI: H3.2 U5.45
SWCLK: U5.1
SWDIO: U5.2
SWO: U5.3
"UART_ TXO": U5.25 U6.2
UART_RXI: U5.26 U6.3
VBAT_OV: R15.2 R16.1 U2.7
VOUT_SET: R10.2 R11.1 U2.12
VRDIV: R10.1 R12.1 R15.1 U2.8
VREF_SAMP: C30.1 U2.4
VSTOR: C27.1 C28.1 U2.3 U2.6 U2.19
pads on no net: H2.2 H2.3 H2.4 J1.NC1 J1.NC2 U2. U2.9 U2.13 U2.17 U3.2 U3.9 U4.1 U4.7 U4.8 U4.10 U4.12 U4.13 U4.15 U4.16 U4.21 U4.22 U4.23 U4.24 U4.26 U4.27 U5.0 U5.4 U5.5 U5.6 U5.7 U5.8 U5.9 U5.10 U5.11 U5.12 U5.13 U5.14 U5.15 U5.16 U5.17 U5.18 U5.23 U5.24 U5.29 U5.30 U5.34 U5.37 U5.38 U5.39 U5.40 U5.41 U5.42 U6. U6.4 U6.13 U6.14 U6.15 U6.16 U6.17 U6.18 U8.1 U8.2 U8.3 U8.4 U8.5 U8.6 U8.7 U8.8 U8.9 U8.10 U8.11 U8.13 U8.14 U8.15 U8.16 U8.17 U8.18 U8.19 U8.20 U8.21 U8.22 U8.23 U8.24 U8.25 U8.26 U8.27 U8.28 U8.29 U8.30 U8.31 U8.32 U8.33 U8.35 U8.36 U8.43 U8.44 U8.45 U8.46 U8.47 U8.48 U10.0 U10.1 U10.2 U10.3 U10.4 U10.5 U10.6 U10.7 U10.8 U10.12 U10.13 U10.19 U10.20 U10.21 U10.22 U10.23 U10.24 U10.25 U10.26 U10.27 U10.28 U10.29 U10.30 U10.31 U10.32 U10.33 U10.34 U10.35 U10.36 U10.37 U10.38 U10.39 U10.40 U10.41 U10.42 U10.43 U10.44 U10.45 U10.46 U10.47 U10.48